# Altium schematic symbol library ADS131M08IPBSR.SchLib: 1 symbol
Pins are listed as number, name and electrical type; pins without a type are passive.

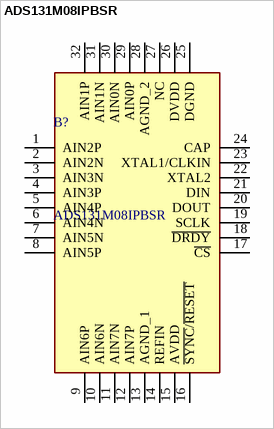
[diagram p0: symbol ADS131M08IPBSR]

## ADS131M08IPBSR
designator B?
Analog to Digital Converters - ADC 24-bit 32-kSPS 8-channel simultaneous-sampling delta-sigma ADC 32-TQFP -40 to 125; Manufacturer_Name: Texas Instruments; Geometry.Height: 1.2mm; Manufacturer_Part_Number: ADS131M08IPBSR; Mouser Part Number: 595-ADS131M08IPBSR; Mouser Price/Stock: https://www.mouser.co.uk/ProductDetail/Texas-Instruments/ADS131M08IPBSR?qs=Cb2nCFKsA8rxAEyQYn%2FiEQ%3D%3D; Arrow Part Number: ADS131M08IPBSR; Arrow Price/Stock: https://www.arrow.com/en/products/ads131m08ipbsr/texas-instruments?region=nac; Datasheet Link: http://www.ti.com/lit/ds/symlink/ads131m08.pdf
footprint QFP50P700X700X120-32N
pins: 1 AIN2P, 2 AIN2N, 3 AIN3N, 4 AIN3P, 5 AIN4P, 6 AIN4N, 7 AIN5N, 8 AIN5P, 9 AIN6P, 10 AIN6N, 11 AIN7N, 12 AIN7P, 13 AGND_1, 14 REFIN, 15 AVDD (power), 16 ~{SYNC}/~{RESET}, 17 ~{CS}, 18 ~{DRDY}, 19 SCLK, 20 DOUT, 21 DIN, 22 XTAL2, 23 XTAL1/CLKIN, 24 CAP, 25 DGND, 26 DVDD (power), 27 NC, 28 AGND_2, 29 AIN0P, 30 AIN0N, 31 AIN1N, 32 AIN1P